# Altium schematic symbol library SW4.SchLib: 1 symbol
Pins are listed as number, name and electrical type; pins without a type are passive.

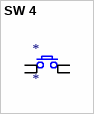
[diagram p0: symbol SW 4]

## SW 4
designator *
Switch Tactile OFF (ON) SPST Round Button Gull Wing 0.05A 24VDC 0.98N SMD T/R; Manufacturer: TE Connectivity; Manufacturer Part Number: FSM2JSMLTR; Actuator Material: Polyphenylene; Mechanical Life: 200000Cycles; Max Current Rating: 50mA; Voltage Rating (DC): 24V; Operating Force: 100gf; Illumination Type: Non-Illuminated,Illuminated; Switch Function: Off-Mom; Actuator Type: Standard; Switch Travel: 0.25mm; Actuator Length: 0.7mm; Supplier 1: Newark; RoHS: Yes; Category: Tactile Switches; Stock 1: 108620; Pricing 1: 1=0.26500, 10=0.23800, 25=0.21100, 100=0.19500, 500=0.18100, 1000=0.13300 (USD); Mount: Surface Mount; Case/Package: SMD/SMT; Contact Material: Copper Alloy; Contact Plating: Silver; Material: Polyamide; Min Operating Temperature: -35°C; Max Operating Temperature: 85°C; Packaging: Tape and Reel; Current Rating: 50mA; Throw Configuration: SPST; Package Quantity: 1; Termination: Gull Wing; Orientation: Straight; Type: Switch; Series: FSMJSML, Alcoswitch; Length: 6mm; Height: 4.3mm; Depth: 10mm; ELV: Compliant; REACH SVHC: No SVHC; RoHS Compliant: Yes; ComponentLink1URL: https://datasheet.ciiva.com/8166/eng-cs-1308111-1-switches-core-program-catalog-0308-8166700.pdf?src-supplier=Avnet; ComponentLink1Description: https://datasheet.ciiva.com/8166/eng-cs-1308111-1-switches-core-program-catalog-0308-8166700.pdf?src-supplier=Avnet; ComponentLink2URL: https://datasheet.ciiva.com/16696/eng-cs-1308111-1-switches-core-program-catalog-0308-16696636.pdf?src-supplier=Avnet+Europe; ComponentLink2Description: https://datasheet.ciiva.com/16696/eng-cs-1308111-1-switches-core-program-catalog-0308-16696636.pdf?src-supplier=Avnet+Europe
footprint SW_1571563-8
pins: 1, 2, 3, 4